# Altium footprint library 0805_C.PcbLib: 1 footprints
Each footprint in its own frame and in the unit in brackets; x right, y up, seen from the top. Pads: shape width x height; smd on the part's side, far side on the other; paste and mask are expansions set on the pad; w line width, h text height; cw(c..) or ccw(c..) is an arc to the next point about the centre after c.
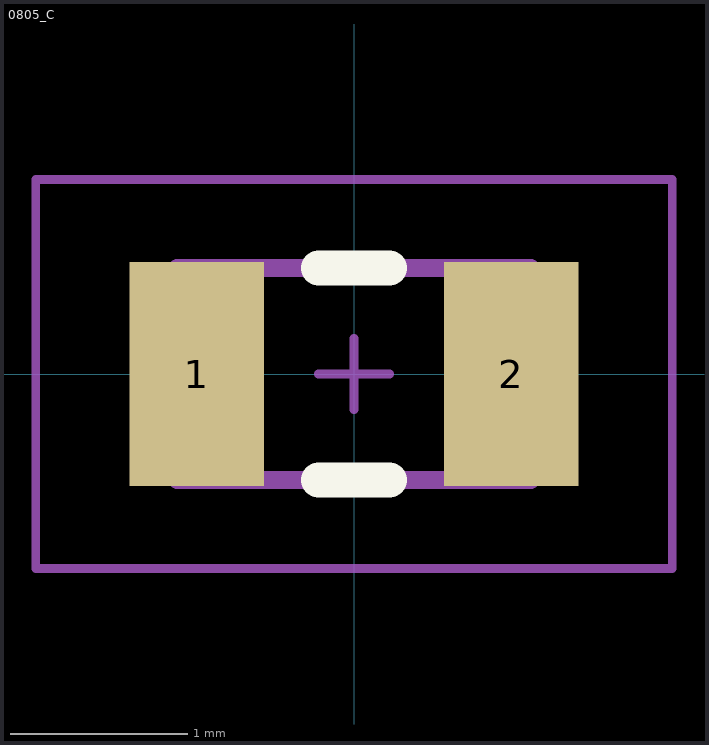
[diagram p0: the footprint, top view; thin cyan lines are the x and y axes]

## 0805_C [mil]
height 21.65
pads (2):
  rect 30x50 smd: 1(-35,0) 2(35,0)
Top Overlay:
  lines w7.87: -7.87,-23.62 7.87,-23.62 ; -7.87,23.62 7.87,23.62
Mechanical 13:
  lines w3.94: -31.5,-23.62 -31.5,23.62 ; 31.5,-23.62 31.5,23.62 ; -39.37,-23.62 -39.37,23.62 39.37,23.62 39.37,-23.62 -39.37,-23.62
Mechanical 15:
  lines w1.97: -7.87,0 0,0 ; 0,-7.87 0,7.87 ; 7.87,0 0,0 ; 0,0 0,0 ; -70.87,-43.31 -70.87,43.31 70.87,43.31 70.87,-43.31 -70.87,-43.31
3D body: height 21.65, standoff 0, extent -39.35,-23.6 -31.52,23.6
3D body: height 21.65, standoff 0, extent 31.52,-23.6 39.35,23.6
3D body: height 21.65, standoff 0, extent -31.5,-23.62 31.52,23.62